# Altium integrated library Linear Technology Power Management LED Driver ICs.IntLib: 490 symbols (part 23 of 48)
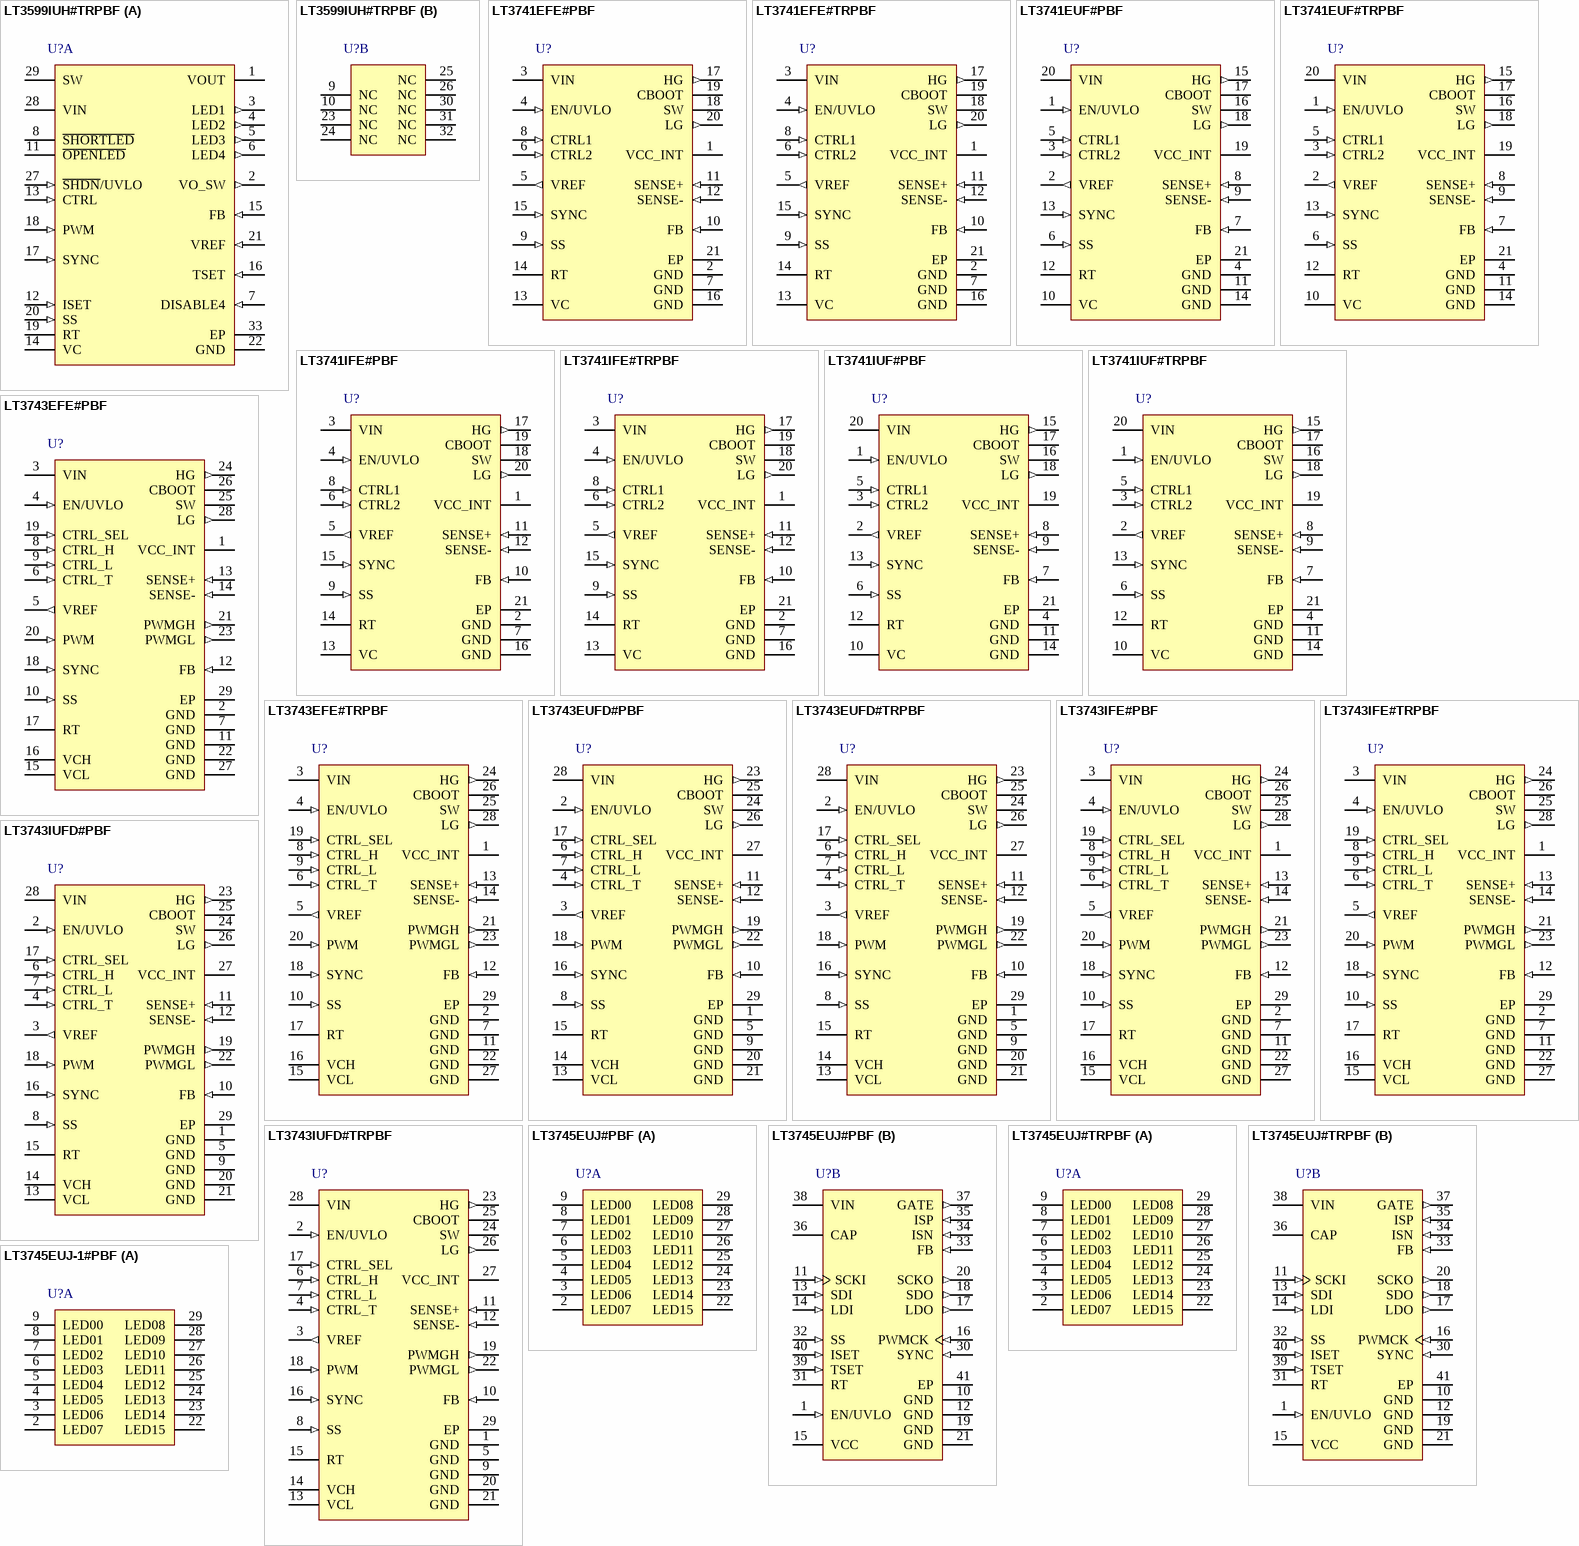
[diagram p42: symbols LT3599IUH#TRPBF to LT3745EUJ-1#PBF]

## LT3745EUJ#TRPBF
designator U?
16-Channel 50 mA LED Driver with Buck Controller, TTL / CMOS Serial Data Interface, 6 to 55 V Vin, 36 V Vout MAX, 40-pin QFN (UJ-40), -40 to 125 degC, Pb-Free, Tape and Reel; Manufacturer: Linear Technology; PartNumber: LT3745EUJ#TRPBF; Topology: Buck, LED Driver; Vin Min(V): 6; PackageVersion: Rev. Ø, 06/2010; PackageReference: UJ-40; PackageDescription: 40-Pin Plastic QFN, Body 6 x 6 mm, Pitch 0.5 mm; Supplier 1: Digi-Key; Supplier Part Number 1: LT3745EUJ#TRPBF-ND; Packing: Tape and Reel; RoHS: TRUE; Mounting Technology: Surface Mount; ComponentLink1Description: Manufacturer URL; ComponentLink1URL: http://www.linear.com/; ComponentLink2Description: Datasheet; ComponentLink2URL: http://cds.linear.com/docs/en/datasheet/3745f.pdf; ComponentLink3Description: Package Specification; ComponentLink3URL: http://cds.linear.com/docs/en/packaging/QFN_40_05-08-1728.pdf
footprint LT-UJ-40_N (QFN, 40-Leads, Body 6.1x6.1mm, Pitch 0.5mm, Thermal Pad 4.42x4.42mm, IPC Medium Density)
footprint LT-UJ-40_L (QFN, 40-Leads, Body 6.1x6.1mm, Pitch 0.5mm, Thermal Pad 4.42x4.42mm, IPC High Density)
footprint LT-UJ-40_M (QFN, 40-Leads, Body 6.1x6.1mm, Pitch 0.5mm, Thermal Pad 4.42x4.42mm, IPC Low Density)
part A pins: 2 LED07 (power) "LED Driver Output Pins. Connect the cathodes of LED strings to these pins.", 3 LED06 (power) "LED Driver Output Pins. Connect the cathodes of LED strings to these pins.", 4 LED05 (power) "LED Driver Output Pins. Connect the cathodes of LED strings to these pins.", 5 LED04 (power) "LED Driver Output Pins. Connect the cathodes of LED strings to these pins.", 6 LED03 (power) "LED Driver Output Pins. Connect the cathodes of LED strings to these pins.", 7 LED02 (power) "LED Driver Output Pins. Connect the cathodes of LED strings to these pins.", 8 LED01 (power) "LED Driver Output Pins. Connect the cathodes of LED strings to these pins.", 9 LED00 (power) "LED Driver Output Pins. Connect the cathodes of LED strings to these pins.", 22 LED15 (power) "LED Driver Output Pins. Connect the cathodes of LED strings to these pins.", 23 LED14 (power) "LED Driver Output Pins. Connect the cathodes of LED strings to these pins.", 24 LED13 (power) "LED Driver Output Pins. Connect the cathodes of LED strings to these pins.", 25 LED12 (power) "LED Driver Output Pins. Connect the cathodes of LED strings to these pins.", 26 LED11 (power) "LED Driver Output Pins. Connect the cathodes of LED strings to these pins.", 27 LED10 (power) "LED Driver Output Pins. Connect the cathodes of LED strings to these pins.", 28 LED09 (power) "LED Driver Output Pins. Connect the cathodes of LED strings to these pins.", 29 LED08 (power) "LED Driver Output Pins. Connect the cathodes of LED strings to these pins."
part B pins: 1 EN/UVLO (in) "Enable and Undervoltage Lockout (UVLO) Pin. The pin can accept a digital input signal to enable or disable the chip. Tie to 0.35V or lower to shut down the chip or tie to 1.34V or higher for normal operation. This pin can (See Datasheet)", 10 GND (power) "Ground Pin.", 11 SCKI (in) "Serial Interface TTL/CMOS Logic Clock Input Pin.", 12 GND (power) "Ground Pin.", 13 SDI (in) "Serial Interface TTL/CMOS Logic Data Input Pin.", 14 LDI (in) "Serial Interface TTL/CMOS Logic Latch Input Pin. An asynchronous input signal at this pin latches the serial data in the shift registers into the proper registers and the status information is ready to shift out with the (See Datasheet)", 15 VCC (power) "Logic and Control Supply Pin. The pin powers serial data interface and internal control circuitry. Must be locally bypassed with a capacitor to ground.", 16 PWMCK (in) "Grayscale PWM Dimming TTL/CMOS Logic Clock Pin. Individual PWM dimming signal is generated by counting this clock pulse from zero to the bits in its 12-bit grayscale PWM register.", 17 LDO (out) "Serial Interface TTL/CMOS Logic Latch Output Pin.", 18 SDO (out) "Serial Interface TTL/CMOS Logic Data Output Pins.", 19 GND (power) "Ground Pin.", 20 SCKO (out) "Serial Interface TTL/CMOS Logic Clock Output Pins.", 21 GND (power) "Serial Interface TTL/CMOS Logic Clock Output Pins.", 30 SYNC (in) "Switching Frequency Synchronization Pin. Synchronizes the internal oscillator frequency to an external clock applied to the SYNC pin. The SYNC pin is TTL/ CMOS logic compatible. Tie to ground or VCC if not used.", 31 RT "Timing Resistor Pin. Programs the switching frequency from 200kHz to 1MHz. See Table 2 for the recommended RT values for common switching frequencies.", 32 SS (in) "Soft-Start Pin. Placing a capacitor here programs soft-start timing to limit inductor inrush current during start-up. The soft-start cycle will not begin until all the VCC, EN/UVLO, and (VIN-VCAP) voltages are higher than (See Datasheet)", 33 FB (in) "Feedback Pin. The pin is regulated to the internal bang-gap reference 1.210V during start-up and precharging phases. Connect to a resistor divider from the buck converter output to program the maximum LED bus voltage. See (See Datasheet)", 34 ISN (in) "Negative Inductor Current Sense Pin. The pin is connected to one terminal of the external inductor current sensing resistor and the buck converter output supplying parallel LED channels.", 35 ISP (in) "Positive Inductor Current Sense Pin. The pin is connected to the inductor and the other terminal of the external inductor current sensing resistor.", 36 CAP "VIN Referenced Regulator Supply Capacitor Pin. The pin holds the negative terminal of an internal VIN referenced 6.8V linear regulator used to bias the gate driver circuitry. Must be locally bypassed with a capacitor to VIN.", 37 GATE (out) "Gate Driver Pin. The pin drives an external P-channel power MOSFET with a typical peak current of 1A. Connect this pin to the gate of the power MOSFET with a short and wide PCB trace to minimize trace inductance.", 38 VIN (power) "Power Input Supply Pin. Must be locally bypassed with a capacitor to ground.", 39 TSET (in) "Temperature Threshold Setting Pin. A resistor to ground programs overtemperature threshold. See more details in the Applications Information section.", 40 ISET (in) "Nominal LED Current Setting Pin. A resistor to ground programs the nominal LED current for all the channels. See more details in the Applications Information section.", 41 EP (power) "Ground Pin. Must be soldered to a continuous copper ground plane to reduce die temperature and to increase the power capability of the device."

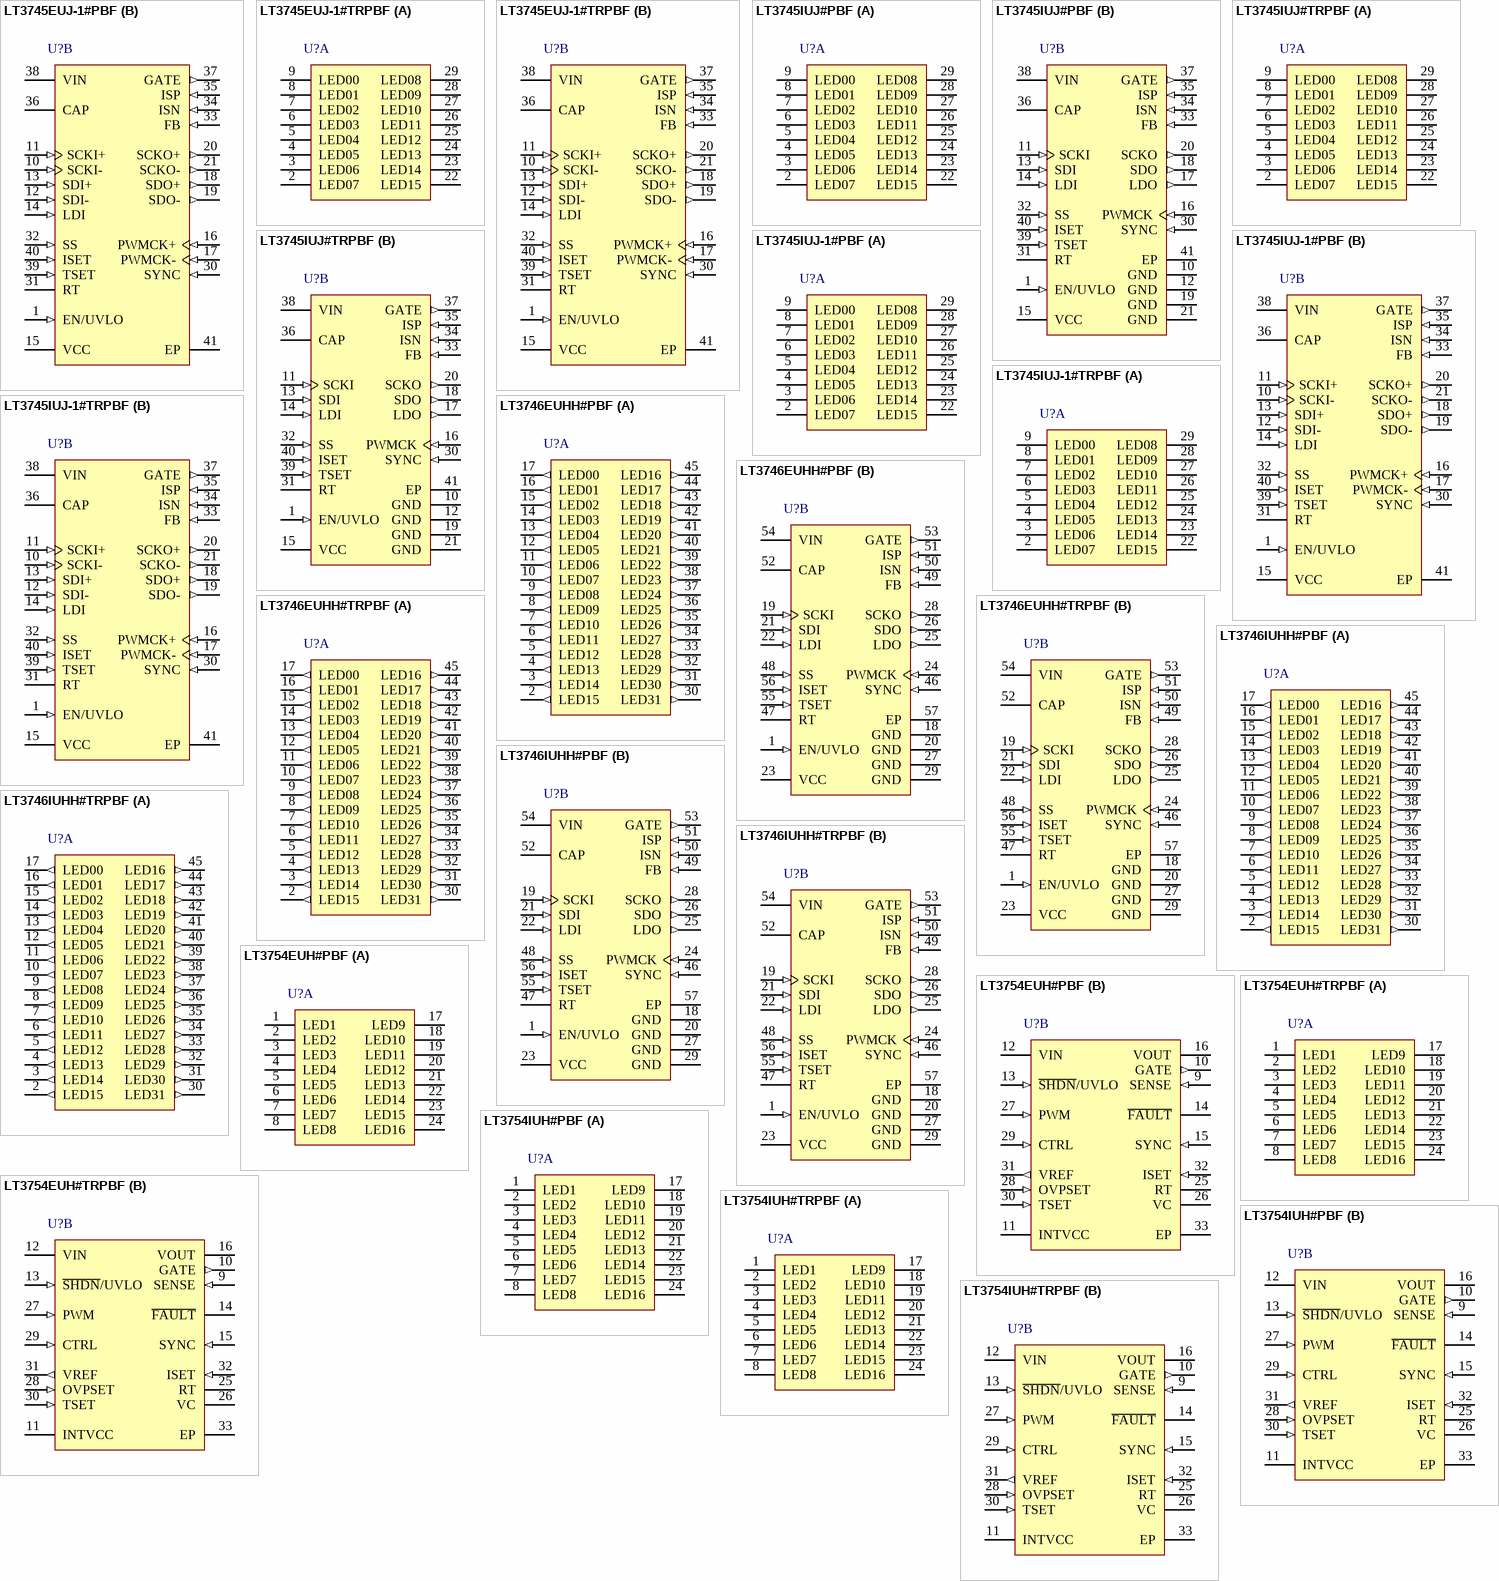
[diagram p10: symbols LT3745EUJ-1#PBF to LT3754IUH#TRPBF]

## LT3745EUJ-1#PBF
designator U?
16-Channel 50 mA LED Driver with Buck Controller, Cascadable LVDS Serial Data Interface, 6 to 55 V Vin, 36 V Vout MAX, 40-pin QFN (UJ-40), -40 to 125 degC, Pb-Free; Manufacturer: Linear Technology; PartNumber: LT3745EUJ-1#PBF; Topology: Buck, LED Driver; Vin Min(V): 6; PackageVersion: Rev. Ø, 06/2010; PackageReference: UJ-40; PackageDescription: 40-Pin Plastic QFN, Body 6 x 6 mm, Pitch 0.5 mm; Supplier 1: Digi-Key; Supplier Part Number 1: LT3745EUJ-1#PBF-ND; Supplier 2: Farnell; Supplier Part Number 2: 2145071; Supplier 3: Newark; Supplier Part Number 3: 05W4640; RoHS: TRUE; Mounting Technology: Surface Mount; ComponentLink1Description: Manufacturer URL; ComponentLink1URL: http://www.linear.com/; ComponentLink2Description: Datasheet; ComponentLink2URL: http://cds.linear.com/docs/en/datasheet/37451f.pdf; ComponentLink3Description: Package Specification; ComponentLink3URL: http://cds.linear.com/docs/en/packaging/QFN_40_05-08-1728.pdf
footprint LT-UJ-40_N (QFN, 40-Leads, Body 6.1x6.1mm, Pitch 0.5mm, Thermal Pad 4.42x4.42mm, IPC Medium Density)
footprint LT-UJ-40_L (QFN, 40-Leads, Body 6.1x6.1mm, Pitch 0.5mm, Thermal Pad 4.42x4.42mm, IPC High Density)
footprint LT-UJ-40_M (QFN, 40-Leads, Body 6.1x6.1mm, Pitch 0.5mm, Thermal Pad 4.42x4.42mm, IPC Low Density)
part A pins: 2 LED07 (power) "LED Driver Output Pins. Connect the cathodes of LED strings to these pins.", 3 LED06 (power) "LED Driver Output Pins. Connect the cathodes of LED strings to these pins.", 4 LED05 (power) "LED Driver Output Pins. Connect the cathodes of LED strings to these pins.", 5 LED04 (power) "LED Driver Output Pins. Connect the cathodes of LED strings to these pins.", 6 LED03 (power) "LED Driver Output Pins. Connect the cathodes of LED strings to these pins.", 7 LED02 (power) "LED Driver Output Pins. Connect the cathodes of LED strings to these pins.", 8 LED01 (power) "LED Driver Output Pins. Connect the cathodes of LED strings to these pins.", 9 LED00 (power) "LED Driver Output Pins. Connect the cathodes of LED strings to these pins.", 22 LED15 (power) "LED Driver Output Pins. Connect the cathodes of LED strings to these pins.", 23 LED14 (power) "LED Driver Output Pins. Connect the cathodes of LED strings to these pins.", 24 LED13 (power) "LED Driver Output Pins. Connect the cathodes of LED strings to these pins.", 25 LED12 (power) "LED Driver Output Pins. Connect the cathodes of LED strings to these pins.", 26 LED11 (power) "LED Driver Output Pins. Connect the cathodes of LED strings to these pins.", 27 LED10 (power) "LED Driver Output Pins. Connect the cathodes of LED strings to these pins.", 28 LED09 (power) "LED Driver Output Pins. Connect the cathodes of LED strings to these pins.", 29 LED08 (power) "LED Driver Output Pins. Connect the cathodes of LED strings to these pins."
part B pins: 1 EN/UVLO (in) "Enable and Undervoltage Lockout (UVLO) Pin. The pin can accept a digital input signal to enable or disable the chip. Tie to 0.35V or lower to shut down the chip or tie to 1.34V or higher for normal operation. This pin can (See Datasheet)", 10 SCKI- (in) "Serial Interface LVDS Logic Clock Input Pins.", 11 SCKI+ (in) "Serial Interface LVDS Logic Clock Input Pins.", 12 SDI- (in) "Serial Interface LVDS Logic Data Input Pins.", 13 SDI+ (in) "Serial Interface LVDS Logic Data Input Pins.", 14 LDI (in) "Serial Interface TTL/CMOS Logic Latch Input Pin. An asynchronous input signal at this pin latches the serial data in the shift registers into the proper registers and the status information is ready to shift out with the (See Datasheet)", 15 VCC (power) "Logic and Control Supply Pin. The pin powers serial data interface and internal control circuitry. Must be locally bypassed with a capacitor to ground.", 16 PWMCK+ (in) "Grayscale PWM Dimming LVDS Logic Clock Input Pins. Individual PWM dimming signal is generated by counting this clock pulse from zero to the bits in its 12-bit grayscale PWM register.", 17 PWMCK- (in) "Grayscale PWM Dimming LVDS Logic Clock Input Pins. Individual PWM dimming signal is generated by counting this clock pulse from zero to the bits in its 12-bit grayscale PWM register.", 18 SDO+ (out) "Serial Interface LVDS Logic Data Output Pins.", 19 SDO- (out) "Serial Interface LVDS Logic Data Output Pins.", 20 SCKO+ (out) "Serial Interface LVDS Logic Clock Output Pins.", 21 SCKO- (out) "Serial Interface LVDS Logic Clock Output Pins.", 30 SYNC (in) "Switching Frequency Synchronization Pin. Synchronizes the internal oscillator frequency to an external clock applied to the SYNC pin. The SYNC pin is TTL/ CMOS logic compatible. Tie to ground or VCC if not used.", 31 RT "Timing Resistor Pin. Programs the switching frequency from 200kHz to 1MHz. See Table 2 for the recommended RT values for common switching frequencies.", 32 SS (in) "Soft-Start Pin. Placing a capacitor here programs soft-start timing to limit inductor inrush current during start-up. The soft-start cycle will not begin until all the VCC, EN/UVLO, and (VIN-VCAP) voltages are higher than (See Datasheet)", 33 FB (in) "Feedback Pin. The pin is regulated to the internal bang-gap reference 1.210V during start-up and precharging phases. Connect to a resistor divider from the buck converter output to program the maximum LED bus voltage. See (See Datasheet)", 34 ISN (in) "Negative Inductor Current Sense Pin. The pin is connected to one terminal of the external inductor current sensing resistor and the buck converter output supplying parallel LED channels.", 35 ISP (in) "Positive Inductor Current Sense Pin. The pin is connected to the inductor and the other terminal of the external inductor current sensing resistor.", 36 CAP "VIN Referenced Regulator Supply Capacitor Pin. The pin holds the negative terminal of an internal VIN referenced 6.8V linear regulator used to bias the gate driver circuitry. Must be locally bypassed with a capacitor to VIN.", 37 GATE (out) "Gate Driver Pin. The pin drives an external P-channel power MOSFET with a typical peak current of 1A. Connect this pin to the gate of the power MOSFET with a short and wide PCB trace to minimize trace inductance.", 38 VIN (power) "Power Input Supply Pin. Must be locally bypassed with a capacitor to ground.", 39 TSET (in) "Temperature Threshold Setting Pin. A resistor to ground programs overtemperature threshold. See more details in the Applications Information section.", 40 ISET (in) "Nominal LED Current Setting Pin. A resistor to ground programs the nominal LED current for all the channels. See more details in the Applications Information section.", 41 EP (power) "Ground Pin. Must be soldered to a continuous copper ground plane to reduce die temperature and to increase the power capability of the device."

## LT3745EUJ-1#TRPBF
designator U?
16-Channel 50 mA LED Driver with Buck Controller, Cascadable LVDS Serial Data Interface, 6 to 55 V Vin, 36 V Vout MAX, 40-pin QFN (UJ-40), -40 to 125 degC, Pb-Free, Tape and Reel; Manufacturer: Linear Technology; PartNumber: LT3745EUJ-1#TRPBF; Topology: Buck, LED Driver; Vin Min(V): 6; PackageVersion: Rev. Ø, 06/2010; PackageReference: UJ-40; PackageDescription: 40-Pin Plastic QFN, Body 6 x 6 mm, Pitch 0.5 mm; Supplier 1: Digi-Key; Supplier Part Number 1: LT3745EUJ-1#TRPBF-ND; Packing: Tape and Reel; RoHS: TRUE; Mounting Technology: Surface Mount; ComponentLink1Description: Manufacturer URL; ComponentLink1URL: http://www.linear.com/; ComponentLink2Description: Datasheet; ComponentLink2URL: http://cds.linear.com/docs/en/datasheet/37451f.pdf; ComponentLink3Description: Package Specification; ComponentLink3URL: http://cds.linear.com/docs/en/packaging/QFN_40_05-08-1728.pdf
footprint LT-UJ-40_N (QFN, 40-Leads, Body 6.1x6.1mm, Pitch 0.5mm, Thermal Pad 4.42x4.42mm, IPC Medium Density)
footprint LT-UJ-40_L (QFN, 40-Leads, Body 6.1x6.1mm, Pitch 0.5mm, Thermal Pad 4.42x4.42mm, IPC High Density)
footprint LT-UJ-40_M (QFN, 40-Leads, Body 6.1x6.1mm, Pitch 0.5mm, Thermal Pad 4.42x4.42mm, IPC Low Density)
part A pins: 2 LED07 (power) "LED Driver Output Pins. Connect the cathodes of LED strings to these pins.", 3 LED06 (power) "LED Driver Output Pins. Connect the cathodes of LED strings to these pins.", 4 LED05 (power) "LED Driver Output Pins. Connect the cathodes of LED strings to these pins.", 5 LED04 (power) "LED Driver Output Pins. Connect the cathodes of LED strings to these pins.", 6 LED03 (power) "LED Driver Output Pins. Connect the cathodes of LED strings to these pins.", 7 LED02 (power) "LED Driver Output Pins. Connect the cathodes of LED strings to these pins.", 8 LED01 (power) "LED Driver Output Pins. Connect the cathodes of LED strings to these pins.", 9 LED00 (power) "LED Driver Output Pins. Connect the cathodes of LED strings to these pins.", 22 LED15 (power) "LED Driver Output Pins. Connect the cathodes of LED strings to these pins.", 23 LED14 (power) "LED Driver Output Pins. Connect the cathodes of LED strings to these pins.", 24 LED13 (power) "LED Driver Output Pins. Connect the cathodes of LED strings to these pins.", 25 LED12 (power) "LED Driver Output Pins. Connect the cathodes of LED strings to these pins.", 26 LED11 (power) "LED Driver Output Pins. Connect the cathodes of LED strings to these pins.", 27 LED10 (power) "LED Driver Output Pins. Connect the cathodes of LED strings to these pins.", 28 LED09 (power) "LED Driver Output Pins. Connect the cathodes of LED strings to these pins.", 29 LED08 (power) "LED Driver Output Pins. Connect the cathodes of LED strings to these pins."
part B pins: 1 EN/UVLO (in) "Enable and Undervoltage Lockout (UVLO) Pin. The pin can accept a digital input signal to enable or disable the chip. Tie to 0.35V or lower to shut down the chip or tie to 1.34V or higher for normal operation. This pin can (See Datasheet)", 10 SCKI- (in) "Serial Interface LVDS Logic Clock Input Pins.", 11 SCKI+ (in) "Serial Interface LVDS Logic Clock Input Pins.", 12 SDI- (in) "Serial Interface LVDS Logic Data Input Pins.", 13 SDI+ (in) "Serial Interface LVDS Logic Data Input Pins.", 14 LDI (in) "Serial Interface TTL/CMOS Logic Latch Input Pin. An asynchronous input signal at this pin latches the serial data in the shift registers into the proper registers and the status information is ready to shift out with the (See Datasheet)", 15 VCC (power) "Logic and Control Supply Pin. The pin powers serial data interface and internal control circuitry. Must be locally bypassed with a capacitor to ground.", 16 PWMCK+ (in) "Grayscale PWM Dimming LVDS Logic Clock Input Pins. Individual PWM dimming signal is generated by counting this clock pulse from zero to the bits in its 12-bit grayscale PWM register.", 17 PWMCK- (in) "Grayscale PWM Dimming LVDS Logic Clock Input Pins. Individual PWM dimming signal is generated by counting this clock pulse from zero to the bits in its 12-bit grayscale PWM register.", 18 SDO+ (out) "Serial Interface LVDS Logic Data Output Pins.", 19 SDO- (out) "Serial Interface LVDS Logic Data Output Pins.", 20 SCKO+ (out) "Serial Interface LVDS Logic Clock Output Pins.", 21 SCKO- (out) "Serial Interface LVDS Logic Clock Output Pins.", 30 SYNC (in) "Switching Frequency Synchronization Pin. Synchronizes the internal oscillator frequency to an external clock applied to the SYNC pin. The SYNC pin is TTL/ CMOS logic compatible. Tie to ground or VCC if not used.", 31 RT "Timing Resistor Pin. Programs the switching frequency from 200kHz to 1MHz. See Table 2 for the recommended RT values for common switching frequencies.", 32 SS (in) "Soft-Start Pin. Placing a capacitor here programs soft-start timing to limit inductor inrush current during start-up. The soft-start cycle will not begin until all the VCC, EN/UVLO, and (VIN-VCAP) voltages are higher than (See Datasheet)", 33 FB (in) "Feedback Pin. The pin is regulated to the internal bang-gap reference 1.210V during start-up and precharging phases. Connect to a resistor divider from the buck converter output to program the maximum LED bus voltage. See (See Datasheet)", 34 ISN (in) "Negative Inductor Current Sense Pin. The pin is connected to one terminal of the external inductor current sensing resistor and the buck converter output supplying parallel LED channels.", 35 ISP (in) "Positive Inductor Current Sense Pin. The pin is connected to the inductor and the other terminal of the external inductor current sensing resistor.", 36 CAP "VIN Referenced Regulator Supply Capacitor Pin. The pin holds the negative terminal of an internal VIN referenced 6.8V linear regulator used to bias the gate driver circuitry. Must be locally bypassed with a capacitor to VIN.", 37 GATE (out) "Gate Driver Pin. The pin drives an external P-channel power MOSFET with a typical peak current of 1A. Connect this pin to the gate of the power MOSFET with a short and wide PCB trace to minimize trace inductance.", 38 VIN (power) "Power Input Supply Pin. Must be locally bypassed with a capacitor to ground.", 39 TSET (in) "Temperature Threshold Setting Pin. A resistor to ground programs overtemperature threshold. See more details in the Applications Information section.", 40 ISET (in) "Nominal LED Current Setting Pin. A resistor to ground programs the nominal LED current for all the channels. See more details in the Applications Information section.", 41 EP (power) "Ground Pin. Must be soldered to a continuous copper ground plane to reduce die temperature and to increase the power capability of the device."

## LT3745IUJ#PBF
designator U?
16-Channel 50 mA LED Driver with Buck Controller, TTL / CMOS Serial Data Interface, 6 to 55 V Vin, 36 V Vout MAX, 40-pin QFN (UJ-40), -40 to 125 degC, Pb-Free; Manufacturer: Linear Technology; PartNumber: LT3745IUJ#PBF; Topology: Buck, LED Driver; Vin Min(V): 6; PackageVersion: Rev. Ø, 06/2010; PackageReference: UJ-40; PackageDescription: 40-Pin Plastic QFN, Body 6 x 6 mm, Pitch 0.5 mm; Supplier 1: Digi-Key; Supplier Part Number 1: LT3745IUJ#PBF-ND; RoHS: TRUE; Mounting Technology: Surface Mount; ComponentLink1Description: Manufacturer URL; ComponentLink1URL: http://www.linear.com/; ComponentLink2Description: Datasheet; ComponentLink2URL: http://cds.linear.com/docs/en/datasheet/3745f.pdf; ComponentLink3Description: Package Specification; ComponentLink3URL: http://cds.linear.com/docs/en/packaging/QFN_40_05-08-1728.pdf
footprint LT-UJ-40_N (QFN, 40-Leads, Body 6.1x6.1mm, Pitch 0.5mm, Thermal Pad 4.42x4.42mm, IPC Medium Density)
footprint LT-UJ-40_L (QFN, 40-Leads, Body 6.1x6.1mm, Pitch 0.5mm, Thermal Pad 4.42x4.42mm, IPC High Density)
footprint LT-UJ-40_M (QFN, 40-Leads, Body 6.1x6.1mm, Pitch 0.5mm, Thermal Pad 4.42x4.42mm, IPC Low Density)
part A pins: 2 LED07 (power) "LED Driver Output Pins. Connect the cathodes of LED strings to these pins.", 3 LED06 (power) "LED Driver Output Pins. Connect the cathodes of LED strings to these pins.", 4 LED05 (power) "LED Driver Output Pins. Connect the cathodes of LED strings to these pins.", 5 LED04 (power) "LED Driver Output Pins. Connect the cathodes of LED strings to these pins.", 6 LED03 (power) "LED Driver Output Pins. Connect the cathodes of LED strings to these pins.", 7 LED02 (power) "LED Driver Output Pins. Connect the cathodes of LED strings to these pins.", 8 LED01 (power) "LED Driver Output Pins. Connect the cathodes of LED strings to these pins.", 9 LED00 (power) "LED Driver Output Pins. Connect the cathodes of LED strings to these pins.", 22 LED15 (power) "LED Driver Output Pins. Connect the cathodes of LED strings to these pins.", 23 LED14 (power) "LED Driver Output Pins. Connect the cathodes of LED strings to these pins.", 24 LED13 (power) "LED Driver Output Pins. Connect the cathodes of LED strings to these pins.", 25 LED12 (power) "LED Driver Output Pins. Connect the cathodes of LED strings to these pins.", 26 LED11 (power) "LED Driver Output Pins. Connect the cathodes of LED strings to these pins.", 27 LED10 (power) "LED Driver Output Pins. Connect the cathodes of LED strings to these pins.", 28 LED09 (power) "LED Driver Output Pins. Connect the cathodes of LED strings to these pins.", 29 LED08 (power) "LED Driver Output Pins. Connect the cathodes of LED strings to these pins."
part B pins: 1 EN/UVLO (in) "Enable and Undervoltage Lockout (UVLO) Pin. The pin can accept a digital input signal to enable or disable the chip. Tie to 0.35V or lower to shut down the chip or tie to 1.34V or higher for normal operation. This pin can (See Datasheet)", 10 GND (power) "Ground Pin.", 11 SCKI (in) "Serial Interface TTL/CMOS Logic Clock Input Pin.", 12 GND (power) "Ground Pin.", 13 SDI (in) "Serial Interface TTL/CMOS Logic Data Input Pin.", 14 LDI (in) "Serial Interface TTL/CMOS Logic Latch Input Pin. An asynchronous input signal at this pin latches the serial data in the shift registers into the proper registers and the status information is ready to shift out with the (See Datasheet)", 15 VCC (power) "Logic and Control Supply Pin. The pin powers serial data interface and internal control circuitry. Must be locally bypassed with a capacitor to ground.", 16 PWMCK (in) "Grayscale PWM Dimming TTL/CMOS Logic Clock Pin. Individual PWM dimming signal is generated by counting this clock pulse from zero to the bits in its 12-bit grayscale PWM register.", 17 LDO (out) "Serial Interface TTL/CMOS Logic Latch Output Pin.", 18 SDO (out) "Serial Interface TTL/CMOS Logic Data Output Pins.", 19 GND (power) "Ground Pin.", 20 SCKO (out) "Serial Interface TTL/CMOS Logic Clock Output Pins.", 21 GND (power) "Serial Interface TTL/CMOS Logic Clock Output Pins.", 30 SYNC (in) "Switching Frequency Synchronization Pin. Synchronizes the internal oscillator frequency to an external clock applied to the SYNC pin. The SYNC pin is TTL/ CMOS logic compatible. Tie to ground or VCC if not used.", 31 RT "Timing Resistor Pin. Programs the switching frequency from 200kHz to 1MHz. See Table 2 for the recommended RT values for common switching frequencies.", 32 SS (in) "Soft-Start Pin. Placing a capacitor here programs soft-start timing to limit inductor inrush current during start-up. The soft-start cycle will not begin until all the VCC, EN/UVLO, and (VIN-VCAP) voltages are higher than (See Datasheet)", 33 FB (in) "Feedback Pin. The pin is regulated to the internal bang-gap reference 1.210V during start-up and precharging phases. Connect to a resistor divider from the buck converter output to program the maximum LED bus voltage. See (See Datasheet)", 34 ISN (in) "Negative Inductor Current Sense Pin. The pin is connected to one terminal of the external inductor current sensing resistor and the buck converter output supplying parallel LED channels.", 35 ISP (in) "Positive Inductor Current Sense Pin. The pin is connected to the inductor and the other terminal of the external inductor current sensing resistor.", 36 CAP "VIN Referenced Regulator Supply Capacitor Pin. The pin holds the negative terminal of an internal VIN referenced 6.8V linear regulator used to bias the gate driver circuitry. Must be locally bypassed with a capacitor to VIN.", 37 GATE (out) "Gate Driver Pin. The pin drives an external P-channel power MOSFET with a typical peak current of 1A. Connect this pin to the gate of the power MOSFET with a short and wide PCB trace to minimize trace inductance.", 38 VIN (power) "Power Input Supply Pin. Must be locally bypassed with a capacitor to ground.", 39 TSET (in) "Temperature Threshold Setting Pin. A resistor to ground programs overtemperature threshold. See more details in the Applications Information section.", 40 ISET (in) "Nominal LED Current Setting Pin. A resistor to ground programs the nominal LED current for all the channels. See more details in the Applications Information section.", 41 EP (power) "Ground Pin. Must be soldered to a continuous copper ground plane to reduce die temperature and to increase the power capability of the device."

## LT3745IUJ#TRPBF
designator U?
16-Channel 50 mA LED Driver with Buck Controller, TTL / CMOS Serial Data Interface, 6 to 55 V Vin, 36 V Vout MAX, 40-pin QFN (UJ-40), -40 to 125 degC, Pb-Free, Tape and Reel; Manufacturer: Linear Technology; PartNumber: LT3745IUJ#TRPBF; Topology: Buck, LED Driver; Vin Min(V): 6; PackageVersion: Rev. Ø, 06/2010; PackageReference: UJ-40; PackageDescription: 40-Pin Plastic QFN, Body 6 x 6 mm, Pitch 0.5 mm; Supplier 1: Digi-Key; Supplier Part Number 1: LT3745IUJ#TRPBF-ND; Packing: Tape and Reel; RoHS: TRUE; Mounting Technology: Surface Mount; ComponentLink1Description: Manufacturer URL; ComponentLink1URL: http://www.linear.com/; ComponentLink2Description: Datasheet; ComponentLink2URL: http://cds.linear.com/docs/en/datasheet/3745f.pdf; ComponentLink3Description: Package Specification; ComponentLink3URL: http://cds.linear.com/docs/en/packaging/QFN_40_05-08-1728.pdf
footprint LT-UJ-40_N (QFN, 40-Leads, Body 6.1x6.1mm, Pitch 0.5mm, Thermal Pad 4.42x4.42mm, IPC Medium Density)
footprint LT-UJ-40_L (QFN, 40-Leads, Body 6.1x6.1mm, Pitch 0.5mm, Thermal Pad 4.42x4.42mm, IPC High Density)
footprint LT-UJ-40_M (QFN, 40-Leads, Body 6.1x6.1mm, Pitch 0.5mm, Thermal Pad 4.42x4.42mm, IPC Low Density)
part A pins: 2 LED07 (power) "LED Driver Output Pins. Connect the cathodes of LED strings to these pins.", 3 LED06 (power) "LED Driver Output Pins. Connect the cathodes of LED strings to these pins.", 4 LED05 (power) "LED Driver Output Pins. Connect the cathodes of LED strings to these pins.", 5 LED04 (power) "LED Driver Output Pins. Connect the cathodes of LED strings to these pins.", 6 LED03 (power) "LED Driver Output Pins. Connect the cathodes of LED strings to these pins.", 7 LED02 (power) "LED Driver Output Pins. Connect the cathodes of LED strings to these pins.", 8 LED01 (power) "LED Driver Output Pins. Connect the cathodes of LED strings to these pins.", 9 LED00 (power) "LED Driver Output Pins. Connect the cathodes of LED strings to these pins.", 22 LED15 (power) "LED Driver Output Pins. Connect the cathodes of LED strings to these pins.", 23 LED14 (power) "LED Driver Output Pins. Connect the cathodes of LED strings to these pins.", 24 LED13 (power) "LED Driver Output Pins. Connect the cathodes of LED strings to these pins.", 25 LED12 (power) "LED Driver Output Pins. Connect the cathodes of LED strings to these pins.", 26 LED11 (power) "LED Driver Output Pins. Connect the cathodes of LED strings to these pins.", 27 LED10 (power) "LED Driver Output Pins. Connect the cathodes of LED strings to these pins.", 28 LED09 (power) "LED Driver Output Pins. Connect the cathodes of LED strings to these pins.", 29 LED08 (power) "LED Driver Output Pins. Connect the cathodes of LED strings to these pins."
part B pins: 1 EN/UVLO (in) "Enable and Undervoltage Lockout (UVLO) Pin. The pin can accept a digital input signal to enable or disable the chip. Tie to 0.35V or lower to shut down the chip or tie to 1.34V or higher for normal operation. This pin can (See Datasheet)", 10 GND (power) "Ground Pin.", 11 SCKI (in) "Serial Interface TTL/CMOS Logic Clock Input Pin.", 12 GND (power) "Ground Pin.", 13 SDI (in) "Serial Interface TTL/CMOS Logic Data Input Pin.", 14 LDI (in) "Serial Interface TTL/CMOS Logic Latch Input Pin. An asynchronous input signal at this pin latches the serial data in the shift registers into the proper registers and the status information is ready to shift out with the (See Datasheet)", 15 VCC (power) "Logic and Control Supply Pin. The pin powers serial data interface and internal control circuitry. Must be locally bypassed with a capacitor to ground.", 16 PWMCK (in) "Grayscale PWM Dimming TTL/CMOS Logic Clock Pin. Individual PWM dimming signal is generated by counting this clock pulse from zero to the bits in its 12-bit grayscale PWM register.", 17 LDO (out) "Serial Interface TTL/CMOS Logic Latch Output Pin.", 18 SDO (out) "Serial Interface TTL/CMOS Logic Data Output Pins.", 19 GND (power) "Ground Pin.", 20 SCKO (out) "Serial Interface TTL/CMOS Logic Clock Output Pins.", 21 GND (power) "Serial Interface TTL/CMOS Logic Clock Output Pins.", 30 SYNC (in) "Switching Frequency Synchronization Pin. Synchronizes the internal oscillator frequency to an external clock applied to the SYNC pin. The SYNC pin is TTL/ CMOS logic compatible. Tie to ground or VCC if not used.", 31 RT "Timing Resistor Pin. Programs the switching frequency from 200kHz to 1MHz. See Table 2 for the recommended RT values for common switching frequencies.", 32 SS (in) "Soft-Start Pin. Placing a capacitor here programs soft-start timing to limit inductor inrush current during start-up. The soft-start cycle will not begin until all the VCC, EN/UVLO, and (VIN-VCAP) voltages are higher than (See Datasheet)", 33 FB (in) "Feedback Pin. The pin is regulated to the internal bang-gap reference 1.210V during start-up and precharging phases. Connect to a resistor divider from the buck converter output to program the maximum LED bus voltage. See (See Datasheet)", 34 ISN (in) "Negative Inductor Current Sense Pin. The pin is connected to one terminal of the external inductor current sensing resistor and the buck converter output supplying parallel LED channels.", 35 ISP (in) "Positive Inductor Current Sense Pin. The pin is connected to the inductor and the other terminal of the external inductor current sensing resistor.", 36 CAP "VIN Referenced Regulator Supply Capacitor Pin. The pin holds the negative terminal of an internal VIN referenced 6.8V linear regulator used to bias the gate driver circuitry. Must be locally bypassed with a capacitor to VIN.", 37 GATE (out) "Gate Driver Pin. The pin drives an external P-channel power MOSFET with a typical peak current of 1A. Connect this pin to the gate of the power MOSFET with a short and wide PCB trace to minimize trace inductance.", 38 VIN (power) "Power Input Supply Pin. Must be locally bypassed with a capacitor to ground.", 39 TSET (in) "Temperature Threshold Setting Pin. A resistor to ground programs overtemperature threshold. See more details in the Applications Information section.", 40 ISET (in) "Nominal LED Current Setting Pin. A resistor to ground programs the nominal LED current for all the channels. See more details in the Applications Information section.", 41 EP (power) "Ground Pin. Must be soldered to a continuous copper ground plane to reduce die temperature and to increase the power capability of the device."

## LT3745IUJ-1#PBF
designator U?
16-Channel 50 mA LED Driver with Buck Controller, Cascadable LVDS Serial Data Interface, 6 to 55 V Vin, 36 V Vout MAX, 40-pin QFN (UJ-40), -40 to 125 degC, Pb-Free; Manufacturer: Linear Technology; PartNumber: LT3745IUJ-1#PBF; Topology: Buck, LED Driver; Vin Min(V): 6; PackageVersion: Rev. Ø, 06/2010; PackageReference: UJ-40; PackageDescription: 40-Pin Plastic QFN, Body 6 x 6 mm, Pitch 0.5 mm; Supplier 1: Digi-Key; Supplier Part Number 1: LT3745IUJ-1#PBF-ND; RoHS: TRUE; Mounting Technology: Surface Mount; ComponentLink1Description: Manufacturer URL; ComponentLink1URL: http://www.linear.com/; ComponentLink2Description: Datasheet; ComponentLink2URL: http://cds.linear.com/docs/en/datasheet/37451f.pdf; ComponentLink3Description: Package Specification; ComponentLink3URL: http://cds.linear.com/docs/en/packaging/QFN_40_05-08-1728.pdf
footprint LT-UJ-40_N (QFN, 40-Leads, Body 6.1x6.1mm, Pitch 0.5mm, Thermal Pad 4.42x4.42mm, IPC Medium Density)
footprint LT-UJ-40_L (QFN, 40-Leads, Body 6.1x6.1mm, Pitch 0.5mm, Thermal Pad 4.42x4.42mm, IPC High Density)
footprint LT-UJ-40_M (QFN, 40-Leads, Body 6.1x6.1mm, Pitch 0.5mm, Thermal Pad 4.42x4.42mm, IPC Low Density)
part A pins: 2 LED07 (power) "LED Driver Output Pins. Connect the cathodes of LED strings to these pins.", 3 LED06 (power) "LED Driver Output Pins. Connect the cathodes of LED strings to these pins.", 4 LED05 (power) "LED Driver Output Pins. Connect the cathodes of LED strings to these pins.", 5 LED04 (power) "LED Driver Output Pins. Connect the cathodes of LED strings to these pins.", 6 LED03 (power) "LED Driver Output Pins. Connect the cathodes of LED strings to these pins.", 7 LED02 (power) "LED Driver Output Pins. Connect the cathodes of LED strings to these pins.", 8 LED01 (power) "LED Driver Output Pins. Connect the cathodes of LED strings to these pins.", 9 LED00 (power) "LED Driver Output Pins. Connect the cathodes of LED strings to these pins.", 22 LED15 (power) "LED Driver Output Pins. Connect the cathodes of LED strings to these pins.", 23 LED14 (power) "LED Driver Output Pins. Connect the cathodes of LED strings to these pins.", 24 LED13 (power) "LED Driver Output Pins. Connect the cathodes of LED strings to these pins.", 25 LED12 (power) "LED Driver Output Pins. Connect the cathodes of LED strings to these pins.", 26 LED11 (power) "LED Driver Output Pins. Connect the cathodes of LED strings to these pins.", 27 LED10 (power) "LED Driver Output Pins. Connect the cathodes of LED strings to these pins.", 28 LED09 (power) "LED Driver Output Pins. Connect the cathodes of LED strings to these pins.", 29 LED08 (power) "LED Driver Output Pins. Connect the cathodes of LED strings to these pins."
part B pins: 1 EN/UVLO (in) "Enable and Undervoltage Lockout (UVLO) Pin. The pin can accept a digital input signal to enable or disable the chip. Tie to 0.35V or lower to shut down the chip or tie to 1.34V or higher for normal operation. This pin can (See Datasheet)", 10 SCKI- (in) "Serial Interface LVDS Logic Clock Input Pins.", 11 SCKI+ (in) "Serial Interface LVDS Logic Clock Input Pins.", 12 SDI- (in) "Serial Interface LVDS Logic Data Input Pins.", 13 SDI+ (in) "Serial Interface LVDS Logic Data Input Pins.", 14 LDI (in) "Serial Interface TTL/CMOS Logic Latch Input Pin. An asynchronous input signal at this pin latches the serial data in the shift registers into the proper registers and the status information is ready to shift out with the (See Datasheet)", 15 VCC (power) "Logic and Control Supply Pin. The pin powers serial data interface and internal control circuitry. Must be locally bypassed with a capacitor to ground.", 16 PWMCK+ (in) "Grayscale PWM Dimming LVDS Logic Clock Input Pins. Individual PWM dimming signal is generated by counting this clock pulse from zero to the bits in its 12-bit grayscale PWM register.", 17 PWMCK- (in) "Grayscale PWM Dimming LVDS Logic Clock Input Pins. Individual PWM dimming signal is generated by counting this clock pulse from zero to the bits in its 12-bit grayscale PWM register.", 18 SDO+ (out) "Serial Interface LVDS Logic Data Output Pins.", 19 SDO- (out) "Serial Interface LVDS Logic Data Output Pins.", 20 SCKO+ (out) "Serial Interface LVDS Logic Clock Output Pins.", 21 SCKO- (out) "Serial Interface LVDS Logic Clock Output Pins.", 30 SYNC (in) "Switching Frequency Synchronization Pin. Synchronizes the internal oscillator frequency to an external clock applied to the SYNC pin. The SYNC pin is TTL/ CMOS logic compatible. Tie to ground or VCC if not used.", 31 RT "Timing Resistor Pin. Programs the switching frequency from 200kHz to 1MHz. See Table 2 for the recommended RT values for common switching frequencies.", 32 SS (in) "Soft-Start Pin. Placing a capacitor here programs soft-start timing to limit inductor inrush current during start-up. The soft-start cycle will not begin until all the VCC, EN/UVLO, and (VIN-VCAP) voltages are higher than (See Datasheet)", 33 FB (in) "Feedback Pin. The pin is regulated to the internal bang-gap reference 1.210V during start-up and precharging phases. Connect to a resistor divider from the buck converter output to program the maximum LED bus voltage. See (See Datasheet)", 34 ISN (in) "Negative Inductor Current Sense Pin. The pin is connected to one terminal of the external inductor current sensing resistor and the buck converter output supplying parallel LED channels.", 35 ISP (in) "Positive Inductor Current Sense Pin. The pin is connected to the inductor and the other terminal of the external inductor current sensing resistor.", 36 CAP "VIN Referenced Regulator Supply Capacitor Pin. The pin holds the negative terminal of an internal VIN referenced 6.8V linear regulator used to bias the gate driver circuitry. Must be locally bypassed with a capacitor to VIN.", 37 GATE (out) "Gate Driver Pin. The pin drives an external P-channel power MOSFET with a typical peak current of 1A. Connect this pin to the gate of the power MOSFET with a short and wide PCB trace to minimize trace inductance.", 38 VIN (power) "Power Input Supply Pin. Must be locally bypassed with a capacitor to ground.", 39 TSET (in) "Temperature Threshold Setting Pin. A resistor to ground programs overtemperature threshold. See more details in the Applications Information section.", 40 ISET (in) "Nominal LED Current Setting Pin. A resistor to ground programs the nominal LED current for all the channels. See more details in the Applications Information section.", 41 EP (power) "Ground Pin. Must be soldered to a continuous copper ground plane to reduce die temperature and to increase the power capability of the device."

## LT3745IUJ-1#TRPBF
designator U?
16-Channel 50 mA LED Driver with Buck Controller, Cascadable LVDS Serial Data Interface, 6 to 55 V Vin, 36 V Vout MAX, 40-pin QFN (UJ-40), -40 to 125 degC, Pb-Free, Tape and Reel; Manufacturer: Linear Technology; PartNumber: LT3745IUJ-1#TRPBF; Topology: Buck, LED Driver; Vin Min(V): 6; PackageVersion: Rev. Ø, 06/2010; PackageReference: UJ-40; PackageDescription: 40-Pin Plastic QFN, Body 6 x 6 mm, Pitch 0.5 mm; Supplier 1: Digi-Key; Supplier Part Number 1: LT3745IUJ-1#TRPBF-ND; Packing: Tape and Reel; RoHS: TRUE; Mounting Technology: Surface Mount; ComponentLink1Description: Manufacturer URL; ComponentLink1URL: http://www.linear.com/; ComponentLink2Description: Datasheet; ComponentLink2URL: http://cds.linear.com/docs/en/datasheet/37451f.pdf; ComponentLink3Description: Package Specification; ComponentLink3URL: http://cds.linear.com/docs/en/packaging/QFN_40_05-08-1728.pdf
footprint LT-UJ-40_N (QFN, 40-Leads, Body 6.1x6.1mm, Pitch 0.5mm, Thermal Pad 4.42x4.42mm, IPC Medium Density)
footprint LT-UJ-40_L (QFN, 40-Leads, Body 6.1x6.1mm, Pitch 0.5mm, Thermal Pad 4.42x4.42mm, IPC High Density)
footprint LT-UJ-40_M (QFN, 40-Leads, Body 6.1x6.1mm, Pitch 0.5mm, Thermal Pad 4.42x4.42mm, IPC Low Density)
part A pins: 2 LED07 (power) "LED Driver Output Pins. Connect the cathodes of LED strings to these pins.", 3 LED06 (power) "LED Driver Output Pins. Connect the cathodes of LED strings to these pins.", 4 LED05 (power) "LED Driver Output Pins. Connect the cathodes of LED strings to these pins.", 5 LED04 (power) "LED Driver Output Pins. Connect the cathodes of LED strings to these pins.", 6 LED03 (power) "LED Driver Output Pins. Connect the cathodes of LED strings to these pins.", 7 LED02 (power) "LED Driver Output Pins. Connect the cathodes of LED strings to these pins.", 8 LED01 (power) "LED Driver Output Pins. Connect the cathodes of LED strings to these pins.", 9 LED00 (power) "LED Driver Output Pins. Connect the cathodes of LED strings to these pins.", 22 LED15 (power) "LED Driver Output Pins. Connect the cathodes of LED strings to these pins.", 23 LED14 (power) "LED Driver Output Pins. Connect the cathodes of LED strings to these pins.", 24 LED13 (power) "LED Driver Output Pins. Connect the cathodes of LED strings to these pins.", 25 LED12 (power) "LED Driver Output Pins. Connect the cathodes of LED strings to these pins.", 26 LED11 (power) "LED Driver Output Pins. Connect the cathodes of LED strings to these pins.", 27 LED10 (power) "LED Driver Output Pins. Connect the cathodes of LED strings to these pins.", 28 LED09 (power) "LED Driver Output Pins. Connect the cathodes of LED strings to these pins.", 29 LED08 (power) "LED Driver Output Pins. Connect the cathodes of LED strings to these pins."
part B pins: 1 EN/UVLO (in) "Enable and Undervoltage Lockout (UVLO) Pin. The pin can accept a digital input signal to enable or disable the chip. Tie to 0.35V or lower to shut down the chip or tie to 1.34V or higher for normal operation. This pin can (See Datasheet)", 10 SCKI- (in) "Serial Interface LVDS Logic Clock Input Pins.", 11 SCKI+ (in) "Serial Interface LVDS Logic Clock Input Pins.", 12 SDI- (in) "Serial Interface LVDS Logic Data Input Pins.", 13 SDI+ (in) "Serial Interface LVDS Logic Data Input Pins.", 14 LDI (in) "Serial Interface TTL/CMOS Logic Latch Input Pin. An asynchronous input signal at this pin latches the serial data in the shift registers into the proper registers and the status information is ready to shift out with the (See Datasheet)", 15 VCC (power) "Logic and Control Supply Pin. The pin powers serial data interface and internal control circuitry. Must be locally bypassed with a capacitor to ground.", 16 PWMCK+ (in) "Grayscale PWM Dimming LVDS Logic Clock Input Pins. Individual PWM dimming signal is generated by counting this clock pulse from zero to the bits in its 12-bit grayscale PWM register.", 17 PWMCK- (in) "Grayscale PWM Dimming LVDS Logic Clock Input Pins. Individual PWM dimming signal is generated by counting this clock pulse from zero to the bits in its 12-bit grayscale PWM register.", 18 SDO+ (out) "Serial Interface LVDS Logic Data Output Pins.", 19 SDO- (out) "Serial Interface LVDS Logic Data Output Pins.", 20 SCKO+ (out) "Serial Interface LVDS Logic Clock Output Pins.", 21 SCKO- (out) "Serial Interface LVDS Logic Clock Output Pins.", 30 SYNC (in) "Switching Frequency Synchronization Pin. Synchronizes the internal oscillator frequency to an external clock applied to the SYNC pin. The SYNC pin is TTL/ CMOS logic compatible. Tie to ground or VCC if not used.", 31 RT "Timing Resistor Pin. Programs the switching frequency from 200kHz to 1MHz. See Table 2 for the recommended RT values for common switching frequencies.", 32 SS (in) "Soft-Start Pin. Placing a capacitor here programs soft-start timing to limit inductor inrush current during start-up. The soft-start cycle will not begin until all the VCC, EN/UVLO, and (VIN-VCAP) voltages are higher than (See Datasheet)", 33 FB (in) "Feedback Pin. The pin is regulated to the internal bang-gap reference 1.210V during start-up and precharging phases. Connect to a resistor divider from the buck converter output to program the maximum LED bus voltage. See (See Datasheet)", 34 ISN (in) "Negative Inductor Current Sense Pin. The pin is connected to one terminal of the external inductor current sensing resistor and the buck converter output supplying parallel LED channels.", 35 ISP (in) "Positive Inductor Current Sense Pin. The pin is connected to the inductor and the other terminal of the external inductor current sensing resistor.", 36 CAP "VIN Referenced Regulator Supply Capacitor Pin. The pin holds the negative terminal of an internal VIN referenced 6.8V linear regulator used to bias the gate driver circuitry. Must be locally bypassed with a capacitor to VIN.", 37 GATE (out) "Gate Driver Pin. The pin drives an external P-channel power MOSFET with a typical peak current of 1A. Connect this pin to the gate of the power MOSFET with a short and wide PCB trace to minimize trace inductance.", 38 VIN (power) "Power Input Supply Pin. Must be locally bypassed with a capacitor to ground.", 39 TSET (in) "Temperature Threshold Setting Pin. A resistor to ground programs overtemperature threshold. See more details in the Applications Information section.", 40 ISET (in) "Nominal LED Current Setting Pin. A resistor to ground programs the nominal LED current for all the channels. See more details in the Applications Information section.", 41 EP (power) "Ground Pin. Must be soldered to a continuous copper ground plane to reduce die temperature and to increase the power capability of the device."